# Altium schematic symbol library trimmer_capacitor.Schlib: 1 symbol
Pins are listed as number, name and electrical type; pins without a type are passive.

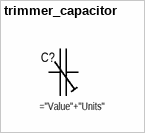
[diagram p0: symbol trimmer_capacitor]

## trimmer_capacitor
designator C?
pins: 1, 2